# Altium footprint library DI_DO-214AC.PcbLib: 1 footprints
Each footprint in its own frame and in the unit in brackets; x right, y up, seen from the top. Pads: shape width x height; smd on the part's side, far side on the other; paste and mask are expansions set on the pad; w line width, h text height; cw(c..) or ccw(c..) is an arc to the next point about the centre after c.
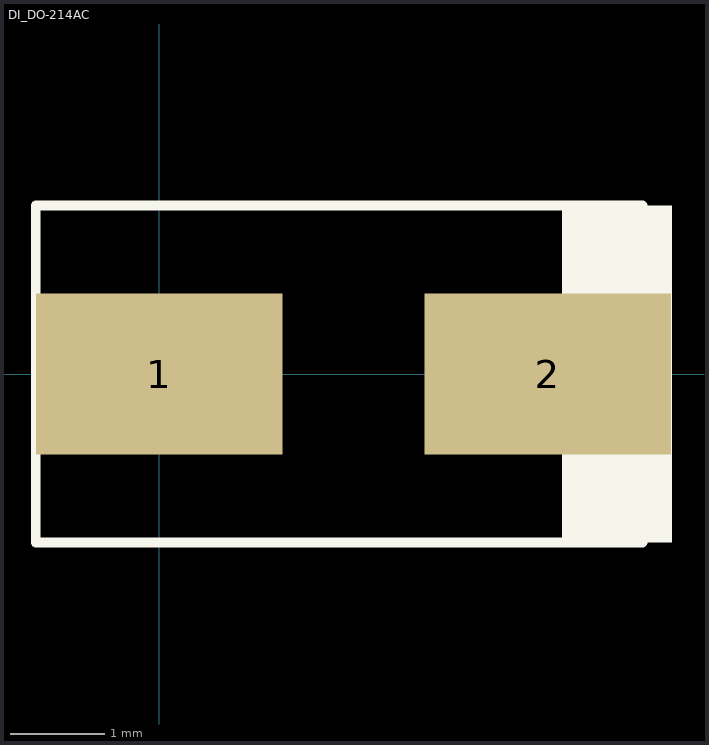
[diagram p0: the footprint, top view; thin cyan lines are the x and y axes]

## DI_DO-214AC [mm] "SMA"
pads (2):
  rect 2.6x1.7 smd: 1(0,0) 2(4.1,0)
Top Overlay:
  rectangle: 4.25,-1.778 5.413,1.778
  lines w0.102: -1.3,-1.778 5.1,-1.778 5.1,1.778 -1.3,1.778 -1.3,-1.778
3D body: height 2.4, standoff 0, extent -0.695,-1.3 4.505,1.3